# Altium footprint library CustomParts.PcbLib: 7 footprints
Each footprint in its own frame and in the unit in brackets; x right, y up, seen from the top. Pads: shape width x height; smd on the part's side, far side on the other; paste and mask are expansions set on the pad; w line width, h text height; cw(c..) or ccw(c..) is an arc to the next point about the centre after c.
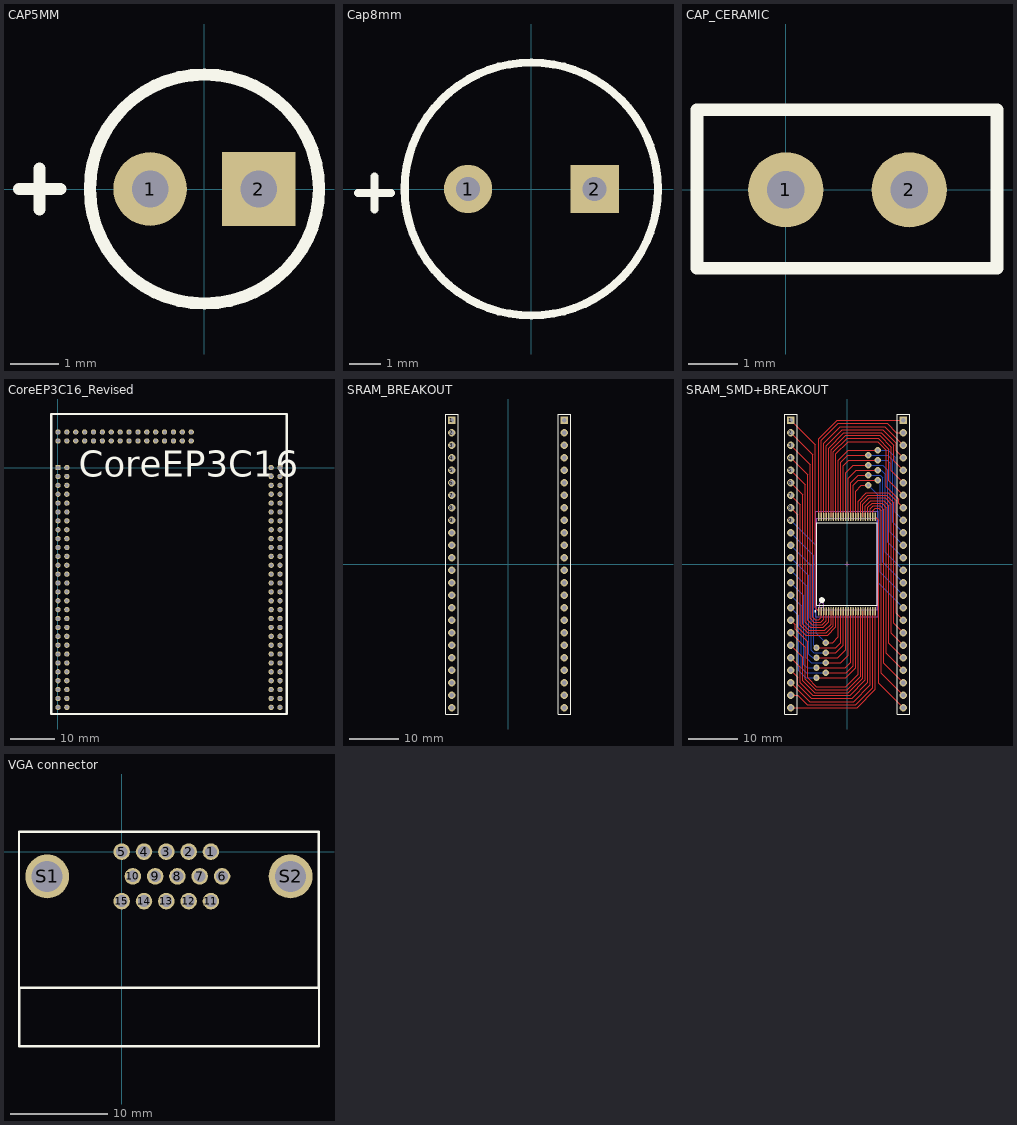
[diagram p0: the footprints below, top view; thin cyan lines are the x and y axes]

## CAP5MM [mil]
pads (2):
  round 60 hole 30: 1(-44.29,0)
  rect 60x60 hole 30: 2(44.29,0)
Top Overlay:
  circle w10: c0,0 r93.43
  lines w10: -151.27,0 -117.71,0 ; -134.49,-16.78 -134.49,16.78

## Cap8mm [mil]
pads (2):
  round 60 hole 30: 1(-78.74,0)
  rect 60x60 hole 30: 2(78.74,0)
Top Overlay:
  circle w10: c0,0 r157.48
  lines w10: -215.62,-5 -174.38,-5 ; -195,-25.62 -195,15.62

## CAP_CERAMIC [mil]
pads (2):
  round 60 hole 30: 1(0,0) 2(98.5,0)
Top Overlay:
  lines w10: -70.89,-62.44 -70.89,63.89 168.5,63.89 168.5,-62.44 -70.89,-62.44

## CoreEP3C16_Revised [mm]
pads (144):
  rect 1.2x1.2 hole 0.8: 1(0,0)
  round 1.2 hole 0.8: 2(2,0) 3(0,-2) 4(2,-2) 5(0,-4) 6(2,-4) 7(0,-6) 8(2,-6) 9(0,-8) 10(2,-8) 11(0,-10) 12(2,-10) 13(0,-12) 14(2,-12) 15(0,-14) 16(2,-14) 17(0,-16) 18(2,-16) 19(0,-18) 20(2,-18) 21(0,-20) 22(2,-20) 23(0,-22) 24(2,-22) 25(0,-24) 26(2,-24) 27(0,-26) 28(2,-26) 29(0,-28) 30(2,-28) 31(0,-30) 32(2,-30) 33(0,-32) 34(2,-32) 35(0,-34) 36(2,-34) 37(0,-36) 38(2,-36) 39(0,-38) 40(2,-38) 41(0,-40) 42(2,-40) 43(0,-42) 44(2,-42) 45(0,-44) 46(2,-44) 47(0,-46) 48(2,-46) 49(0,-48) 50(2,-48) 51(0,-50) 52(2,-50) 53(0,-52) 54(2,-52) 55(0,-54) 56(2,-54) 57(0,6) 58(0,8) 59(2,6) 60(2,8) 61(4,6) 62(4,8) 63(6,6) 64(6,8) 65(8,6) 66(8,8) 67(10,6) 68(10,8) 69(12,6) 70(12,8) 71(14,6) 72(14,8) 73(16,6) 74(16,8) 75(18,6) 76(18,8) 77(20,6) 78(20,8) 79(22,6) 80(22,8) 81(24,6) 82(24,8) 83(26,6) 84(26,8) 85(28,6) 86(28,8) 87(30,6) 88(30,8) 89(48,0) 90(50,0) 91(48,-2) 92(50,-2) 93(48,-4) 94(50,-4) 95(48,-6) 96(50,-6) 97(48,-8) 98(50,-8) 99(48,-10) 100(50,-10) 101(48,-12) 102(50,-12) 103(48,-14) 104(50,-14) 105(48,-16) 106(50,-16) 107(48,-18) 108(50,-18) 109(48,-20) 110(50,-20) 111(48,-22) 112(50,-22) 113(48,-24) 114(50,-24) 115(48,-26) 116(50,-26) 117(48,-28) 118(50,-28) 119(48,-30) 120(50,-30) 121(48,-32) 122(50,-32) 123(48,-34) 124(50,-34) 125(48,-36) 126(50,-36) 127(48,-38) 128(50,-38) 129(48,-40) 130(50,-40) 131(48,-42) 132(50,-42) 133(48,-44) 134(50,-44) 135(48,-46) 136(50,-46) 137(48,-48) 138(50,-48) 139(48,-50) 140(50,-50) 141(48,-52) 142(50,-52) 143(48,-54) 144(50,-54)
Top Overlay:
  lines w0.508: -1.5,-55.499 -1.5,12.065 51.5,12.065 51.5,-55.499 -1.5,-55.499
  text "CoreEP3C16" at 4.699,-3.937 h10

## SRAM_BREAKOUT [mm]
pads (48):
  rect 1.5x1.5 hole 0.9: 1(-11.43,29.21) 48(11.43,29.21)
  round 1.5 hole 0.9: 2(-11.43,26.67) 3(-11.43,24.13) 4(-11.43,21.59) 5(-11.43,19.05) 6(-11.43,16.51) 7(-11.43,13.97) 8(-11.43,11.43) 9(-11.43,8.89) 10(-11.43,6.35) 11(-11.43,3.81) 12(-11.43,1.27) 13(-11.43,-1.27) 14(-11.43,-3.81) 15(-11.43,-6.35) 16(-11.43,-8.89) 17(-11.43,-11.43) 18(-11.43,-13.97) 19(-11.43,-16.51) 20(-11.43,-19.05) 21(-11.43,-21.59) 22(-11.43,-24.13) 23(-11.43,-26.67) 24(-11.43,-29.21) 25(11.43,-29.21) 26(11.43,-26.67) 27(11.43,-24.13) 28(11.43,-21.59) 29(11.43,-19.05) 30(11.43,-16.51) 31(11.43,-13.97) 32(11.43,-11.43) 33(11.43,-8.89) 34(11.43,-6.35) 35(11.43,-3.81) 36(11.43,-1.27) 37(11.43,1.27) 38(11.43,3.81) 39(11.43,6.35) 40(11.43,8.89) 41(11.43,11.43) 42(11.43,13.97) 43(11.43,16.51) 44(11.43,19.05) 45(11.43,21.59) 46(11.43,24.13) 47(11.43,26.67)
Top Layer:
  lines w0.254: 11.049,-8.89 11.43,-8.89
Top Overlay:
  lines w0.2: -12.7,-30.48 -12.7,30.48 -10.16,30.48 -10.16,28.575 -10.16,-30.48 -12.7,-30.48 ; 10.16,-30.48 10.16,30.48 12.7,30.48 12.7,28.575 12.7,-30.48 10.16,-30.48

## SRAM_SMD+BREAKOUT [mm]
pads (96):
  rect 1.5x1.5 hole 0.9: 1(-11.43,29.21) 48(11.43,29.21)
  oval 0.3x1.7 smd: 1(-5.75,-9.6) 2(-5.25,-9.6) 3(-4.75,-9.6) 4(-4.25,-9.6) 5(-3.75,-9.6) 6(-3.25,-9.6) 7(-2.75,-9.6) 8(-2.25,-9.6) 9(-1.75,-9.6) 10(-1.25,-9.6) 11(-0.75,-9.6) 12(-0.25,-9.6) 13(0.25,-9.6) 14(0.75,-9.6) 15(1.25,-9.6) 16(1.75,-9.6) 17(2.25,-9.6) 18(2.75,-9.6) 19(3.25,-9.6) 20(3.75,-9.6) 21(4.25,-9.6) 22(4.75,-9.6) 23(5.25,-9.6) 24(5.75,-9.6) 25(5.75,9.6) 26(5.25,9.6) 27(4.75,9.6) 28(4.25,9.6) 29(3.75,9.6) 30(3.25,9.6) 31(2.75,9.6) 32(2.25,9.6) 33(1.75,9.6) 34(1.25,9.6) 35(0.75,9.6) 36(0.25,9.6) 37(-0.25,9.6) 38(-0.75,9.6) 39(-1.25,9.6) 40(-1.75,9.6) 41(-2.25,9.6) 42(-2.75,9.6) 43(-3.25,9.6) 44(-3.75,9.6) 45(-4.25,9.6) 46(-4.75,9.6) 47(-5.25,9.6) 48(-5.75,9.6)
  round 1.5 hole 0.9: 2(-11.43,26.67) 3(-11.43,24.13) 4(-11.43,21.59) 5(-11.43,19.05) 6(-11.43,16.51) 7(-11.43,13.97) 8(-11.43,11.43) 9(-11.43,8.89) 10(-11.43,6.35) 11(-11.43,3.81) 12(-11.43,1.27) 13(-11.43,-1.27) 14(-11.43,-3.81) 15(-11.43,-6.35) 16(-11.43,-8.89) 17(-11.43,-11.43) 18(-11.43,-13.97) 19(-11.43,-16.51) 20(-11.43,-19.05) 21(-11.43,-21.59) 22(-11.43,-24.13) 23(-11.43,-26.67) 24(-11.43,-29.21) 25(11.43,-29.21) 26(11.43,-26.67) 27(11.43,-24.13) 28(11.43,-21.59) 29(11.43,-19.05) 30(11.43,-16.51) 31(11.43,-13.97) 32(11.43,-11.43) 33(11.43,-8.89) 34(11.43,-6.35) 35(11.43,-3.81) 36(11.43,-1.27) 37(11.43,1.27) 38(11.43,3.81) 39(11.43,6.35) 40(11.43,8.89) 41(11.43,11.43) 42(11.43,13.97) 43(11.43,16.51) 44(11.43,19.05) 45(11.43,21.59) 46(11.43,24.13) 47(11.43,26.67)
via 6.223,17.018 diameter 1.27 hole 0.711
via 6.223,19.05 diameter 1.27 hole 0.711
via 6.223,21.082 diameter 1.27 hole 0.711
via 6.223,23.114 diameter 1.27 hole 0.711
via 4.318,16.002 diameter 1.27 hole 0.711
via 4.318,18.034 diameter 1.27 hole 0.711
via 4.318,20.066 diameter 1.27 hole 0.711
via 4.318,22.098 diameter 1.27 hole 0.711
via -4.318,-16.002 diameter 1.27 hole 0.711
via -6.223,-17.018 diameter 1.27 hole 0.711
via -4.318,-18.034 diameter 1.27 hole 0.711
via -6.223,-19.05 diameter 1.27 hole 0.711
via -4.318,-20.066 diameter 1.27 hole 0.711
via -6.223,-21.082 diameter 1.27 hole 0.711
via -4.318,-22.098 diameter 1.27 hole 0.711
via -6.223,-23.114 diameter 1.27 hole 0.711
Top Layer:
  lines w0.254: -11.43,-29.21 2.032,-29.21 5.75,-25.492 5.75,-9.6 ; -11.43,-26.67 -10.033,-26.67 -8.128,-28.575 1.778,-28.575 5.25,-25.103 5.25,-22.817 5.25,-9.6 ; -11.43,-24.13 -10.16,-25.4 -7.62,-27.94 -7.366,-27.94 1.397,-27.94 4.75,-24.587 4.75,-9.6 ; -11.43,-21.59 -10.033,-22.987 -10.033,-24.511 -7.239,-27.305 1.016,-27.305 4.25,-24.071 4.25,-9.6 ; -11.43,-19.05 -9.525,-20.955 -9.525,-24.13 -6.985,-26.67 -3.81,-26.67 0.635,-26.67 3.75,-23.555 3.75,-9.6 ; -11.43,-16.51 -9.017,-18.923 -9.017,-23.749 -6.604,-26.162 -1.778,-26.162 0.254,-26.162 3.25,-23.166 3.25,-9.6 ; -11.43,-13.97 -8.509,-16.891 -8.509,-23.368 -6.35,-25.527 0,-25.527 2.75,-22.777 2.75,-9.6 ; -11.43,-11.43 -10.541,-12.319 -10.541,-13.208 -8.001,-15.748 -8.001,-23.114 -6.223,-24.892 -0.254,-24.892 2.25,-22.388 2.25,-9.6 ; -11.43,11.43 -10.033,10.033 -10.033,-12.827 -8.382,-14.478 -3.937,-14.478 -2.25,-12.791 -2.25,-9.6 ; -11.43,13.97 -9.525,12.065 -9.525,-12.446 -8.001,-13.97 -4.191,-13.97 -2.75,-12.529 -2.75,-9.6 ; -11.43,16.51 -9.017,14.097 -9.017,-12.192 -7.747,-13.462 -4.52,-13.462 -3.25,-12.192 -3.25,-9.6 ; -11.43,19.05 -8.509,16.129 -8.509,-11.811 -7.493,-12.827 -4.826,-12.827 -3.75,-11.751 -3.75,-9.6 ; -11.43,21.59 -8.001,18.161 -8.001,-11.43 -7.112,-12.319 -5.08,-12.319 -4.25,-11.489 -4.25,-9.6 ; -11.43,24.13 -7.493,20.193 -7.493,-11.049 -6.731,-11.811 -5.334,-11.811 -4.75,-11.227 -4.75,-9.6 ; -11.43,26.67 -6.985,22.225 -6.985,-10.795 -6.477,-11.303 -5.715,-11.303 -5.25,-10.838 -5.25,-9.6 ; -11.43,29.21 -6.477,24.257 -6.477,-8.873 -5.75,-9.6 ; -6.223,-23.114 -0.254,-23.114 1.75,-21.11 1.75,-9.6 ; -6.223,-21.082 -0.381,-21.082 0.75,-19.951 0.75,-9.6 ; -6.223,-19.05 -1.905,-19.05 -0.25,-17.395 -0.25,-9.6 ; -6.223,-17.018 -2.286,-17.018 -1.25,-15.982 -1.25,-9.6 ; -5.75,9.6 -5.75,25.492 -2.032,29.21 11.43,29.21 ; -5.25,9.6 -5.25,22.817 -5.25,25.103 -1.778,28.575 8.128,28.575 10.033,26.67 11.43,26.67 ; -4.75,9.6 -4.75,24.587 -1.397,27.94 7.366,27.94 7.62,27.94 10.16,25.4 11.43,24.13 ; -4.318,-22.098 -0.127,-22.098 1.25,-20.721 1.25,-9.6 ; -4.318,-20.066 -1.27,-20.066 0.25,-18.546 0.25,-9.6 ; -4.318,-18.034 -2.286,-18.034 -0.75,-16.498 -0.75,-9.6 ; -4.318,-16.002 -2.921,-16.002 -1.75,-14.831 -1.75,-9.6 ; -4.25,9.6 -4.25,24.071 -1.016,27.305 7.239,27.305 10.033,24.511 10.033,22.987 11.43,21.59 ; -3.75,9.6 -3.75,23.555 -0.635,26.67 3.81,26.67 6.985,26.67 9.525,24.13 9.525,20.955 11.43,19.05 ; -3.25,9.6 -3.25,23.166 -0.254,26.162 1.778,26.162 6.604,26.162 9.017,23.749 9.017,18.923 11.43,16.51 ; -2.75,9.6 -2.75,22.777 0,25.527 6.35,25.527 8.509,23.368 8.509,16.891 11.43,13.97 ; -2.25,9.6 -2.25,22.388 0.254,24.892 6.223,24.892 8.001,23.114 8.001,15.748 10.541,13.208 10.541,12.319 11.43,11.43 ; -1.75,9.6 -1.75,21.11 0.254,23.114 6.223,23.114 ; -1.25,9.6 -1.25,20.721 0.127,22.098 4.318,22.098 ; -0.75,9.6 -0.75,19.951 0.381,21.082 6.223,21.082 ; -0.25,9.6 -0.25,18.546 1.27,20.066 4.318,20.066 ; 0.25,9.6 0.25,17.395 1.905,19.05 6.223,19.05 ; 0.75,9.6 0.75,16.498 2.286,18.034 4.318,18.034 ; 1.25,9.6 1.25,15.982 2.286,17.018 6.223,17.018 ; 1.75,9.6 1.75,14.831 2.921,16.002 4.318,16.002 ; 2.25,9.6 2.25,12.791 3.937,14.478 8.382,14.478 10.033,12.827 10.033,-10.033 11.43,-11.43 ; 2.75,9.6 2.75,12.529 4.191,13.97 8.001,13.97 9.525,12.446 9.525,-12.065 11.43,-13.97 ; 3.25,9.6 3.25,12.192 4.52,13.462 7.747,13.462 9.017,12.192 9.017,-14.097 11.43,-16.51 ; 3.75,9.6 3.75,11.751 4.826,12.827 7.493,12.827 8.509,11.811 8.509,-16.129 11.43,-19.05 ; 4.25,9.6 4.25,11.489 5.08,12.319 7.112,12.319 8.001,11.43 8.001,-18.161 11.43,-21.59 ; 4.75,9.6 4.75,11.227 5.334,11.811 6.731,11.811 7.493,11.049 7.493,-20.193 11.43,-24.13 ; 5.25,9.6 5.25,10.838 5.715,11.303 6.477,11.303 6.985,10.795 6.985,-22.225 11.43,-26.67 ; 5.75,9.6 6.477,8.873 6.477,-24.257 11.43,-29.21 ; 11.049,-8.89 11.43,-8.89
Bottom Layer:
  lines w0.254: -11.43,-8.89 -9.779,-10.541 -9.779,-21.717 -8.382,-23.114 -6.223,-23.114 ; -11.43,-6.35 -9.271,-8.509 -9.271,-21.082 -8.255,-22.098 -4.318,-22.098 ; -11.43,-3.81 -8.763,-6.477 -8.763,-20.447 -8.128,-21.082 -6.223,-21.082 ; -11.43,-1.27 -8.255,-4.445 -8.255,-19.05 -7.239,-20.066 -4.318,-20.066 ; -11.43,1.27 -7.747,-2.413 -7.747,-18.288 -6.985,-19.05 -6.223,-19.05 ; -11.43,3.81 -7.239,-0.381 -7.239,-17.526 -6.731,-18.034 -4.318,-18.034 ; -11.43,6.35 -6.731,1.651 -6.731,-16.51 -6.223,-17.018 ; -11.43,8.89 -6.223,3.683 -6.223,-14.097 -4.318,-16.002 ; 4.318,16.002 6.223,14.097 6.223,-3.683 11.43,-8.89 ; 4.318,18.034 6.731,18.034 7.239,17.526 7.239,0.381 11.43,-3.81 ; 4.318,20.066 7.239,20.066 8.255,19.05 8.255,4.445 11.43,1.27 ; 4.318,22.098 8.255,22.098 9.271,21.082 9.271,8.509 11.43,6.35 ; 6.223,17.018 6.731,16.51 6.731,-1.651 11.43,-6.35 ; 6.223,19.05 6.985,19.05 7.747,18.288 7.747,2.413 11.43,-1.27 ; 6.223,21.082 8.128,21.082 8.763,20.447 8.763,6.477 11.43,3.81 ; 6.223,23.114 8.382,23.114 9.779,21.717 9.779,10.541 11.43,8.89
Top Overlay:
  circle w0.25: c-6.45,-9.6 r0.125
  circle w0.6: c-5.1,-7.35 r0.3
  lines w0.2: -12.7,-30.48 -12.7,30.48 -10.16,30.48 -10.16,28.575 -10.16,-30.48 -12.7,-30.48 ; -6.1,-8.35 6.1,-8.35 6.1,8.35 -6.1,8.35 -6.1,-8.35 ; 10.16,-30.48 10.16,30.48 12.7,30.48 12.7,28.575 12.7,-30.48 10.16,-30.48
Mechanical 13:
  circle w0.1: c-5.2,-8.4 r0.5
  lines w0.1: -6.1,-9.3 6.1,-9.3 6.1,9.3 -6.1,9.3 -6.1,-9.3
Mechanical 15:
  lines w0.05: -6.35,-10.7 6.35,-10.7 6.35,10.7 -6.35,10.7 -6.35,-10.7
  lines w0.1: -0.5,0 0.5,0 ; 0,-0.5 0,0.5
3D body: height 1.2, standoff 0.05, extent -6.1,-9.3 6.1,9.3

## VGA connector [mm]
pads (17):
  round 1.7 hole 1.2: 1(9.16,0) 2(6.87,0) 3(4.58,0) 4(2.29,0) 5(0,0) 6(10.302,-2.542) 7(8.012,-2.542) 8(5.722,-2.542) 9(3.432,-2.542) 10(1.142,-2.542) 11(9.16,-5.078) 12(6.87,-5.078) 13(4.58,-5.078) 14(2.29,-5.078) 15(0,-5.078)
  round 4.5 hole 3.18: S1(-7.647,-2.542) S2(17.34,-2.542)
Top Overlay:
  lines w0.254: -10.527,-13.975 -10.527,-19.984 20.256,-19.984 20.256,-13.975 ; -10.545,-13.975 20.238,-13.975 20.238,2.043 -10.545,2.043 -10.545,-13.975